# EAGLE library part ADC-PCM1803A (library FlashPCB_ICs)
PCM1803A - IC ADC/AUDIO 24BIT 96K 20SSOP Technical Specifications: ADC, Audio 24 b 96k Serial 20-SSOP 24-Bit Sigma-Delta Stereo Analog-Digital Converter Single-Ended Voltage Input: 3Vp-p Sampling Rate: 16kHz~96kHz Resolution: 24-bit Supply Voltage: 3.3V(Digital) / 5V(Analog) Component Search: PCM1803A <https://www.flashpcb.com/components> Datasheet: PCM1803A Single-Ended, Analog-Input 24-Bit, 96-kHz Stereo A/D Converter datasheet (Rev. B) <https://www.ti.com/lit/ds/symlink/pcm1803a.pdf?ts=1683665821450>
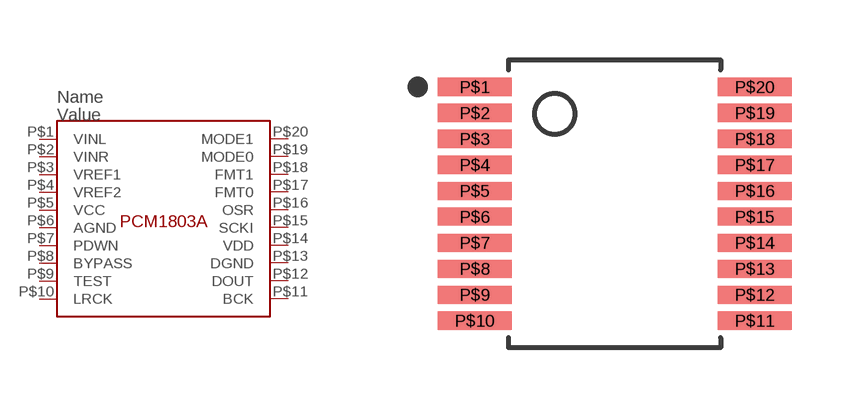
[diagram p10: symbol with the pads of 20-SSOP(5.3X7.2); footprint 20-SSOP(5.3X7.2)]

Designator prefix U

## ADC-PCM1803A  [20-SSOP(5.3X7.2)]
P$1  VINL
P$2  VINR
P$3  VREF1
P$4  VREF2
P$5  VCC
P$6  AGND
P$7  PDWN
P$8  BYPASS
P$9  TEST
P$10  LRCK
P$11  BCK
P$12  DOUT
P$13  DGND
P$14  VDD
P$15  SCKI
P$16  OSR
P$17  FMT0
P$18  FMT1
P$19  MODE0
P$20  MODE1

## Footprint 20-SSOP(5.3X7.2) (pad centres in mm)
smd 1.85 x 0.45: P$1 -3.5,2.925; P$2 -3.5,2.275; P$3 -3.5,1.625; P$4 -3.5,0.975; P$5 -3.5,0.325; P$6 -3.5,-0.325; P$7 -3.5,-0.975; P$8 -3.5,-1.625; P$9 -3.5,-2.275; P$10 -3.5,-2.925; P$11 3.5,-2.925; P$12 3.5,-2.275; P$13 3.5,-1.625; P$14 3.5,-0.975; P$15 3.5,-0.325; P$16 3.5,0.325; P$17 3.5,0.975; P$18 3.5,1.625; P$19 3.5,2.275; P$20 3.5,2.925